# EAGLE library part MMNET1001_SUPPORT (library rhoban)
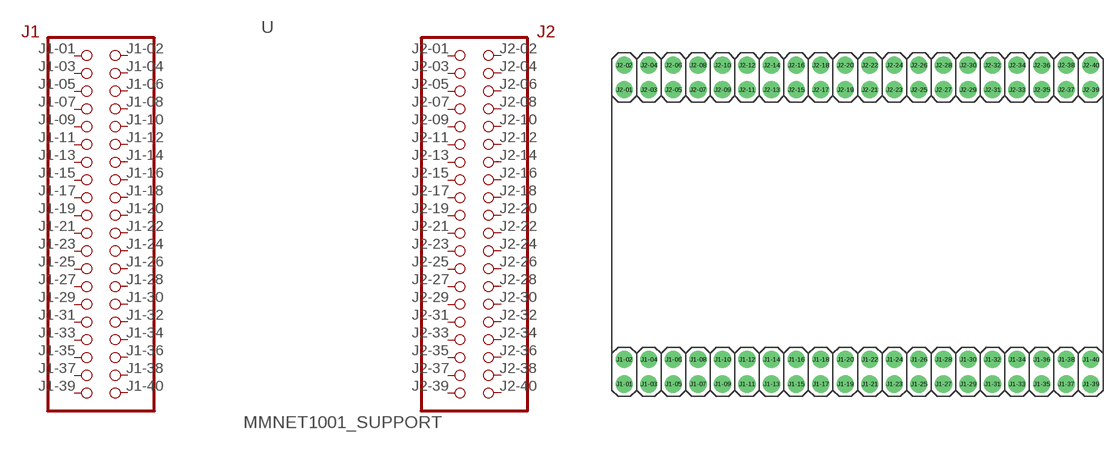
[diagram p11: symbol with the pads of MMNET01_SUPPORT; footprint MMNET01_SUPPORT]

Designator prefix -

## MMNET1001_SUPPORT  [MMNET01_SUPPORT]
J1-01  J1-01  pas
J1-02  J1-02  pas
J1-03  J1-03  pas
J1-04  J1-04  pas
J1-05  J1-05  pas
J1-06  J1-06  pas
J1-07  J1-07  pas
J1-08  J1-08  pas
J1-09  J1-09  pas
J1-10  J1-10  pas
J1-11  J1-11  pas
J1-12  J1-12  pas
J1-13  J1-13  pas
J1-14  J1-14  pas
J1-15  J1-15  pas
J1-16  J1-16  pas
J1-17  J1-17  pas
J1-18  J1-18  pas
J1-19  J1-19  pas
J1-20  J1-20  pas
J1-21  J1-21  pas
J1-22  J1-22  pas
J1-23  J1-23  pas
J1-24  J1-24  pas
J1-25  J1-25  pas
J1-26  J1-26  pas
J1-27  J1-27  pas
J1-28  J1-28  pas
J1-29  J1-29  pas
J1-30  J1-30  pas
J1-31  J1-31  pas
J1-32  J1-32  pas
J1-33  J1-33  pas
J1-34  J1-34  pas
J1-35  J1-35  pas
J1-36  J1-36  pas
J1-37  J1-37  pas
J1-38  J1-38  pas
J1-39  J1-39  pas
J1-40  J1-40  pas
J2-01  J2-01  pas
J2-02  J2-02  pas
J2-03  J2-03  pas
J2-04  J2-04  pas
J2-05  J2-05  pas
J2-06  J2-06  pas
J2-07  J2-07  pas
J2-08  J2-08  pas
J2-09  J2-09  pas
J2-10  J2-10  pas
J2-11  J2-11  pas
J2-12  J2-12  pas
J2-13  J2-13  pas
J2-14  J2-14  pas
J2-15  J2-15  pas
J2-16  J2-16  pas
J2-17  J2-17  pas
J2-18  J2-18  pas
J2-19  J2-19  pas
J2-20  J2-20  pas
J2-21  J2-21  pas
J2-22  J2-22  pas
J2-23  J2-23  pas
J2-24  J2-24  pas
J2-25  J2-25  pas
J2-26  J2-26  pas
J2-27  J2-27  pas
J2-28  J2-28  pas
J2-29  J2-29  pas
J2-30  J2-30  pas
J2-31  J2-31  pas
J2-32  J2-32  pas
J2-33  J2-33  pas
J2-34  J2-34  pas
J2-35  J2-35  pas
J2-36  J2-36  pas
J2-37  J2-37  pas
J2-38  J2-38  pas
J2-39  J2-39  pas
J2-40  J2-40  pas

## Footprint MMNET01_SUPPORT (pad centres in mm)
drill 1 pad 1.778: J1-01 -19.05,-3.81; J1-02 -19.05,-1.27; J1-03 -16.51,-3.81; J1-04 -16.51,-1.27; J1-05 -13.97,-3.81; J1-06 -13.97,-1.27; J1-07 -11.43,-3.81; J1-08 -11.43,-1.27; J1-09 -8.89,-3.81; J1-10 -8.89,-1.27; J1-11 -6.35,-3.81; J1-12 -6.35,-1.27; J1-13 -3.81,-3.81; J1-14 -3.81,-1.27; J1-15 -1.27,-3.81; J1-16 -1.27,-1.27; J1-17 1.27,-3.81; J1-18 1.27,-1.27; J1-19 3.81,-3.81; J1-20 3.81,-1.27; J1-21 6.35,-3.81; J1-22 6.35,-1.27; J1-23 8.89,-3.81; J1-24 8.89,-1.27; J1-25 11.43,-3.81; J1-26 11.43,-1.27; J1-27 13.97,-3.81; J1-28 13.97,-1.27; J1-29 16.51,-3.81; J1-30 16.51,-1.27; J1-31 19.05,-3.81; J1-32 19.05,-1.27; J1-33 21.59,-3.81; J1-34 21.59,-1.27; J1-35 24.13,-3.81; J1-36 24.13,-1.27; J1-37 26.67,-3.81; J1-38 26.67,-1.27; J1-39 29.21,-3.81; J1-40 29.21,-1.27; J2-01 -19.05,26.67; J2-02 -19.05,29.21; J2-03 -16.51,26.67; J2-04 -16.51,29.21; J2-05 -13.97,26.67; J2-06 -13.97,29.21; J2-07 -11.43,26.67; J2-08 -11.43,29.21; J2-09 -8.89,26.67; J2-10 -8.89,29.21; J2-11 -6.35,26.67; J2-12 -6.35,29.21; J2-13 -3.81,26.67; J2-14 -3.81,29.21; J2-15 -1.27,26.67; J2-16 -1.27,29.21; J2-17 1.27,26.67; J2-18 1.27,29.21; J2-19 3.81,26.67; J2-20 3.81,29.21; J2-21 6.35,26.67; J2-22 6.35,29.21; J2-23 8.89,26.67; J2-24 8.89,29.21; J2-25 11.43,26.67; J2-26 11.43,29.21; J2-27 13.97,26.67; J2-28 13.97,29.21; J2-29 16.51,26.67; J2-30 16.51,29.21; J2-31 19.05,26.67; J2-32 19.05,29.21; J2-33 21.59,26.67; J2-34 21.59,29.21; J2-35 24.13,26.67; J2-36 24.13,29.21; J2-37 26.67,26.67; J2-38 26.67,29.21; J2-39 29.21,26.67; J2-40 29.21,29.21